# EAGLE library part MP1584EN (library MP1584EN)
3A, 1.5MHz, 28V Step-Down Converter
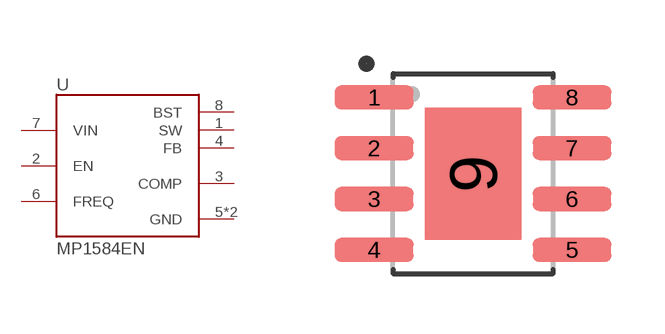
[diagram p0: symbol with the pads of SOIC127P600X170-9N; footprint SOIC127P600X170-9N]

Designator prefix U

## MP1584EN (Availability: Unavailable; Description: Buck Switching Regulator IC Positive Adjustable 0.8V 1 Output 3A 8-SOIC (0.154, 3.90mm Width) Exposed Pad; MF: Monolithic Power; MP: MP1584EN; Package: SOIC-8 Monolithic Power; Price: None)  [SOIC127P600X170-9N]
1  SW  out
2  EN  in
3  COMP  out
4  FB  in
5  GND  pwr
6  FREQ  in
7  VIN  in
8  BST  pas
9  GND  pwr

## Footprint SOIC127P600X170-9N (pad centres in mm)
smd 1.97 x 0.6: 1 -2.475,1.905; 2 -2.475,0.635; 3 -2.475,-0.635; 4 -2.475,-1.905; 5 2.475,-1.905; 6 2.475,-0.635; 7 2.475,0.635; 8 2.475,1.905
smd 2.41 x 3.3: 9 0,0